# Altium footprint library YXG.PcbLib: 52 footprints (part 1 of 4)
Each footprint in its own frame and in the unit in brackets; x right, y up, seen from the top. Pads: shape width x height; smd on the part's side, far side on the other; paste and mask are expansions set on the pad; w line width, h text height; cw(c..) or ccw(c..) is an arc to the next point about the centre after c.
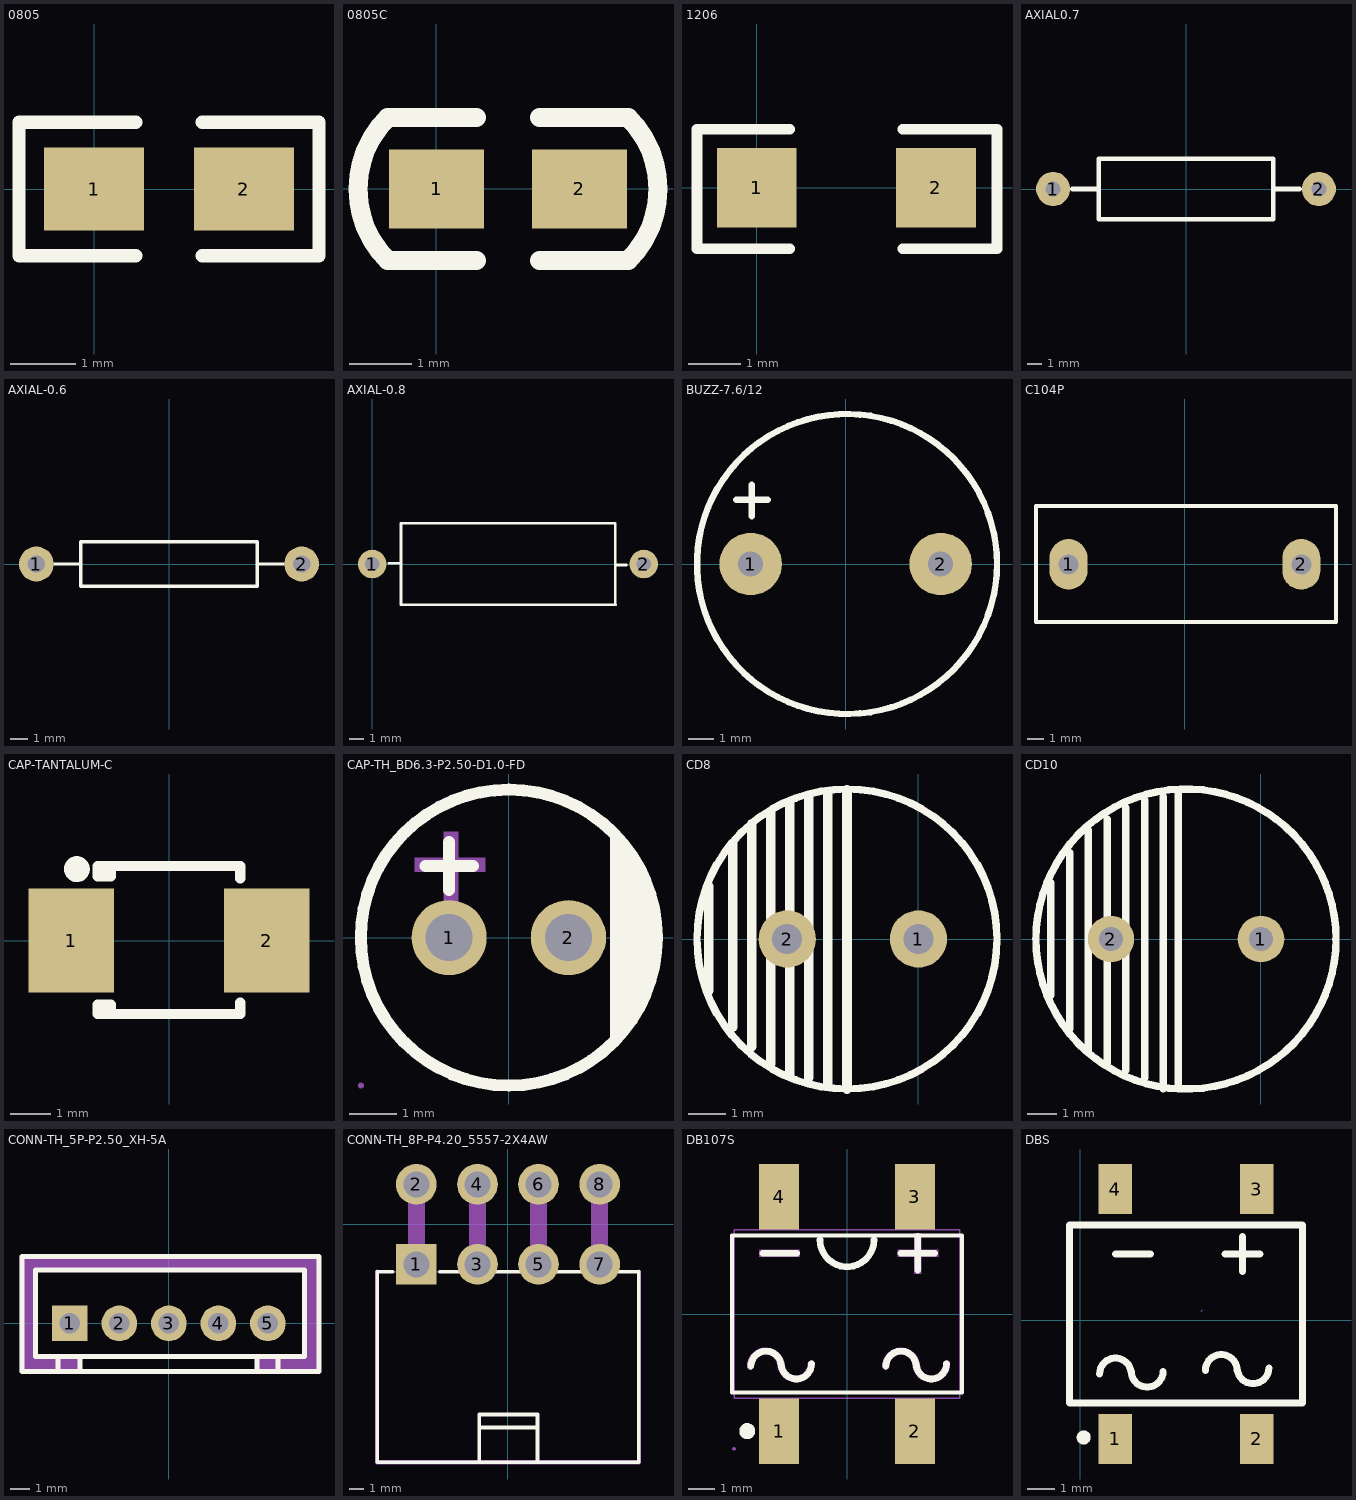
[diagram p0: the footprints below, top view; thin cyan lines are the x and y axes]

## 0805 [mil]
pads (2):
  rect 60x50 smd: 1(0,0) 2(90,0)
Top Overlay:
  lines w8: 25,-40 -45,-40 -45,40 25,40 ; 65,-40 135,-40 135,40 65,40

## 0805C [mil]
pads (2):
  rect 60x50 smd: 1(0.16,0) 2(90.16,0)
Top Overlay:
  lines w12: 25.16,-45 -30.84,-45 cw(c14.16,0) -30.84,45 25.16,45 ; 65.16,-45 121.16,-45 ccw(c76.16,0) 121.16,45 65.16,45

## 1206 [mil]
pads (2):
  rect 60x60 smd: 1(0,0) 2(135,0)
Top Overlay:
  lines w8: 25,-46 -45,-46 -45,44 25,44 ; 110,-46 181,-46 181,44 110,44

## AXIAL0.7 [mil]
pads (2):
  round 90 hole 39.37: 1(-350,0) 2(350,0)
Top Overlay:
  lines w12: -300,0 -230,0 ; 230,0 300,0 ; -230,-80 230,-80 230,80 -230,80 -230,-80

## AXIAL-0.6 [mm]
height 2.54
pads (2):
  round 2 hole 1: 1(-7.62,0) 2(7.62,0)
Top Overlay:
  lines w0.2: -6.604,0 -5.08,0 ; 5.08,0 6.604,0 ; -5.08,-1.27 -5.08,1.27 5.08,1.27 5.08,-1.27 -5.08,-1.27

## AXIAL-0.8 [mm]
pads (2):
  round 2 hole 1: 1(0,0) 2(19,0)
Top Overlay:
  lines w0.2: 1.17,0.056 1.932,0.056 ; 17.005,-2.855 17.005,2.86 2.019,2.86 2.019,-2.855 17.019,-2.855 ; 17.045,-0.071 17.807,-0.071

## BUZZ-7.6/12 [mm]
height 7.5
pads (2):
  round 2.5 hole 1: 1(-3.8,0) 2(3.8,0)
Top Overlay:
  circle w0.254: c0.051,0 r6
  lines w0.254: -4.38,2.57 -3.12,2.57 ; -3.76,1.91 -3.76,3.17

## C104P [mm]
pads (2):
  oval 2.286x3.048 hole 1.2: 1(-7,0) 2(7,0)
Top Overlay:
  lines w0.254: -8.96,3.5 -8.96,-3.465 9.086,-3.465 9.086,3.5 ; -8.96,3.505 9.086,3.505

## CAP-TANTALUM-C [mm]
height 1.9
pads (2):
  rect 2.1x2.56 smd: 1(-2.4,0) 2(2.4,0)
Top Overlay:
  circle w0.381: c-2.261,1.753 r0.127
  lines w0.254: -1.6,-1.575 -1.75,-1.725 -1.75,-1.803 ; -1.6,1.575 -1.6,1.6 ; -1.422,-1.753 -1.422,-1.575 -1.75,-1.575 -1.75,-1.803 ; -1.422,1.702 -1.422,1.575 -1.75,1.575 -1.75,1.829 1.75,1.829 1.75,1.524 ; 1.75,-1.524 1.75,-1.803 -1.75,-1.803

## CAP-TH_BD6.3-P2.50-D1.0-FD [mm]
pads (2):
  round 1.6 hole 1: 1(-1.27,0) 2(1.27,0)
Top Overlay:
  circle w0.254: c0,0 r3.15
  region: 2.159,2.286 2.319,2.142 2.595,1.812 2.822,1.447 2.997,1.054 3.115,0.641 3.175,0.215 3.175,-0.215 3.115,-0.641 2.997,-1.054 2.822,-1.447 2.595,-1.812 2.319,-2.142 2.159,-2.286
  lines w0.254: -1.778,1.524 -0.762,1.524 ; -1.27,1.016 -1.27,2.032
Mechanical 6:
  region: -2,1.7 -0.5,1.7 -0.5,1.4 -2,1.4
  region: -1.381,0.752 -1.381,2.252 -1.081,2.252 -1.081,0.752
Mechanical 15:
  region: -3.09,-3.15 -3.09,-3.125 -3.125,-3.09 -3.175,-3.09 -3.21,-3.125 -3.21,-3.15 -3.21,-3.175 -3.175,-3.21 -3.125,-3.21 -3.09,-3.175
  region: 1.57,0 1.569,0.059 1.522,0.167 1.438,0.25 1.329,0.294 1.211,0.294 1.102,0.25 1.018,0.167 0.971,0.059 0.97,0 0.971,-0.059 1.018,-0.167 1.102,-0.25 1.211,-0.294 1.329,-0.294 1.438,-0.25 1.522,-0.167 1.569,-0.059
  region: -0.97,0 -0.971,0.059 -1.018,0.167 -1.102,0.25 -1.211,0.294 -1.329,0.294 -1.438,0.25 -1.522,0.167 -1.569,0.059 -1.57,0 -1.569,-0.059 -1.522,-0.167 -1.438,-0.25 -1.329,-0.294 -1.211,-0.294 -1.102,-0.25 -1.018,-0.167 -0.971,-0.059
  lines w0.051: -3.15,0 cw(c0,0) 3.15,0 cw(c0,0) -3.15,0

## CD8 [mil]
pads (2):
  round 60 hole 31.5: 1(0,0) 2(-137.8,0)
Top Overlay:
  circle w7.87: c-75,0 r157.48
  lines w10: -220,-54.13 -220,55.12 ; -195,-92.52 -195,100.39 ; -175,-113.19 -175,121.06 ; -155,-130.91 -155,133.86 ; -135,-143.7 -135,141.73 ; -115,-145.67 -115,149.61 ; -95,-154.53 -95,153.54 ; -75,-157.48 -75,156.5

## CD10 [mil]
pads (2):
  round 62 hole 31.5: 1(0,0) 2(-200,0)
Top Overlay:
  circle w10: c-100,0 r200
  lines w10: -280,-75 -280,75 ; -255,-120 -255,115 ; -230,-150 -230,145 ; -205,-165 -205,160 ; -180,-175 -180,175 ; -155,-185 -155,185 ; -130,-200 -130,190 ; -110,-200 -110,195

## CONN-TH_5P-P2.50_XH-5A [mm]
pads (5):
  rect 1.8x1.8 hole 1.05: 1(-5,0)
  round 1.8 hole 1.05: 2(-2.498,0) 3(0.001,0) 4(2.501,0) 5(5,0)
Top Overlay:
  lines w0.254: -7.416,-2.432 -7.416,3.368 7.58,3.368 ; -7.413,-2.438 7.583,-2.438 ; -6.731,-1.676 -6.731,2.692 6.858,2.692 6.858,-1.676 -6.698,-1.676 ; -5.58,-2.438 -5.58,-1.676 ; -4.47,-2.438 -4.47,-1.803 ; 4.453,-2.438 4.453,-1.676 ; 5.52,-2.438 5.52,-1.676 ; 7.573,-2.438 7.573,3.353
Mechanical 6:
  region: 4.42,-1.727 6.807,-1.727 6.858,-1.676 6.858,2.692 -6.731,2.692 -6.731,-1.643 -6.698,-1.676 -4.597,-1.676 -4.47,-1.676 -4.47,-1.803 -4.47,-2.438 -7.413,-2.438 -7.413,3.365 -7.416,3.368 7.558,3.368 7.573,3.353 7.573,-2.429 7.583,-2.438 4.394,-2.438
Mechanical 15:
  region: -7.44,-2.4 -7.44,-2.375 -7.475,-2.34 -7.525,-2.34 -7.56,-2.375 -7.56,-2.4 -7.56,-2.425 -7.525,-2.46 -7.475,-2.46 -7.44,-2.425
  region: 4.675,0.325 5.325,0.325 5.325,-0.325 4.675,-0.325
  region: 2.176,0.325 2.826,0.325 2.826,-0.325 2.176,-0.325
  region: -0.324,0.325 0.326,0.325 0.326,-0.325 -0.324,-0.325
  region: -2.823,0.325 -2.173,0.325 -2.173,-0.325 -2.823,-0.325
  region: -5.325,0.325 -4.675,0.325 -4.675,-0.325 -5.325,-0.325
  lines w0.051: -7.5,-2.4 7.5,-2.4 7.5,3.4 -7.5,3.4 -7.5,-2.4

## CONN-TH_8P-P4.20_5557-2X4AW [mm]
pads (8):
  rect 2.8x2.8 hole 1.8: 1(-6.3,-2.75)
  round 2.8 hole 1.8: 2(-6.3,2.75) 3(-2.1,-2.75) 5(2.1,-2.75) 7(6.3,-2.75)
  round 2.8 hole 1.8 copper offset 0,0: 4(-2.1,2.75) 6(2.1,2.75) 8(6.3,2.75)
Top Overlay:
  lines w0.254: -7.931,-3.25 -9,-3.25 -9,-16.35 9,-16.35 9,-3.25 7.462,-3.25 ; -4.669,-3.25 -3.262,-3.25 ; -1.968,-16.272 -1.968,-13.072 2.032,-13.072 2.032,-16.272 ; -1.968,-13.972 2.032,-13.972 ; -0.938,-3.25 0.938,-3.25 ; 3.262,-3.25 5.138,-3.25
Mechanical 6:
  region: -9.127,-16.35 -9.127,-3.25 -9.127,-3.197 -9.052,-3.123 -8.947,-3.123 -8.873,-3.197 -8.873,-3.25 -8.873,-16.35 -8.873,-16.403 -8.947,-16.477 -9.052,-16.477 -9.127,-16.403 -9.127,-16.35
  region: -9,-16.223 9,-16.223 9.053,-16.223 9.127,-16.297 9.127,-16.403 9.053,-16.477 9,-16.477 -9,-16.477 -9.052,-16.477 -9.127,-16.403 -9.127,-16.297 -9.052,-16.223 -9,-16.223
  region: 8.873,-16.35 8.873,-3.25 8.873,-3.197 8.948,-3.123 9.053,-3.123 9.127,-3.197 9.127,-3.25 9.127,-16.35 9.127,-16.403 9.053,-16.477 8.948,-16.477 8.873,-16.403 8.873,-16.35
Mechanical 15:
  region: -8.94,-16.35 -8.94,-16.325 -8.975,-16.29 -9.025,-16.29 -9.06,-16.325 -9.06,-16.35 -9.06,-16.375 -9.025,-16.41 -8.975,-16.41 -8.94,-16.375 -8.94,-16.35
  region: -2.67,-2.18 -1.53,-2.18 -1.53,-3.32 -2.67,-3.32
  region: -6.87,-2.18 -5.73,-2.18 -5.73,-3.32 -6.87,-3.32
  region: -2.67,3.32 -1.53,3.32 -1.53,2.18 -2.67,2.18
  region: -6.87,3.32 -5.73,3.32 -5.73,2.18 -6.87,2.18
  region: 1.53,-2.18 2.67,-2.18 2.67,-3.32 1.53,-3.32
  region: 1.53,3.32 2.67,3.32 2.67,2.18 1.53,2.18
  region: 5.73,-2.18 6.87,-2.18 6.87,-3.32 5.73,-3.32
  region: 5.725,3.32 6.865,3.32 6.865,2.18 5.725,2.18
  region: 6.865,-3.48 5.725,-3.48 5.725,2.42 6.865,2.42
  region: 2.665,-3.48 1.525,-3.48 1.525,2.42 2.665,2.42
  region: -1.535,-3.48 -2.675,-3.48 -2.675,2.42 -1.535,2.42
  region: -5.735,-3.48 -6.875,-3.48 -6.875,2.42 -5.735,2.42
  lines w0.051: -9,-16.35 -9,-3.25 9,-3.25 9,-16.35 -9,-16.35

## DB107S [mm]
pads (4):
  rect 1.505x2.47 smd: 1(-2.55,-4.41) 2(2.55,-4.41) 3(2.55,4.41) 4(-2.55,4.41)
Top Overlay:
  circle w0.3: c-3.755,-4.41 r0.15
  lines w0.152: -4.326,-2.946 4.326,-2.946 4.326,2.946 -4.326,2.946 -4.326,-2.946
  lines w0.254: -3.619,-1.968 cw(c-3.048,-1.968) -2.476,-1.968 ; -3.175,2.286 -1.905,2.286 ; -2.476,-1.873 ccw(c-1.905,-1.873) -1.333,-1.873 ; -1.016,2.794 ccw(c0,2.794) 1.016,2.794 ; 1.46,-1.968 cw(c2.032,-1.968) 2.603,-1.968 ; 2.032,2.286 3.302,2.286 ; 2.603,-1.873 ccw(c3.175,-1.873) 3.746,-1.873 ; 2.667,1.651 2.667,2.921
Mechanical 6:
  drawing of 5 lines, arcs and shapes, not listed
Mechanical 15:
  region: -4.19,-5.075 -4.19,-5.05 -4.225,-5.015 -4.275,-5.015 -4.31,-5.05 -4.31,-5.075 -4.31,-5.1 -4.275,-5.135 -4.225,-5.135 -4.19,-5.1
  region: 3.087,5.075 3.087,4.125 2.012,4.125 2.012,5.075
  region: 3.087,4.135 3.087,3.165 2.012,3.165 2.012,4.135
  region: -2.012,5.075 -2.012,4.125 -3.087,4.125 -3.087,5.075
  region: -2.012,4.135 -2.012,3.165 -3.087,3.165 -3.087,4.135
  region: 3.087,-5.075 3.087,-4.125 2.012,-4.125 2.012,-5.075
  region: 3.087,-4.135 3.087,-3.165 2.012,-3.165 2.012,-4.135
  region: -2.012,-5.075 -2.012,-4.125 -3.087,-4.125 -3.087,-5.075
  region: -2.012,-4.135 -2.012,-3.165 -3.087,-3.165 -3.087,-4.135
  lines w0.051: -4.25,-3.175 4.25,-3.175 4.25,3.175 -4.25,3.175 -4.25,-3.175

## DBS [mm]
pads (4):
  rect 1.2x1.8 smd: 1(1.264,-4.282) 2(6.364,-4.282) 3(6.364,4.718) 4(1.264,4.718)
Top Overlay:
  circle w0.254: c0.131,-4.227 r0.127
  lines w0.254: 0.702,-1.941 cw(c1.274,-1.941) 1.845,-1.941 ; 1.274,2.377 2.544,2.377 ; 1.845,-1.846 ccw(c2.417,-1.846) 2.988,-1.846 ; 4.512,-1.814 cw(c5.084,-1.814) 5.655,-1.814 ; 5.211,2.377 6.481,2.377 ; 5.655,-1.719 ccw(c6.227,-1.719) 6.798,-1.719 ; 5.846,1.742 5.846,3.012 ; -0.386,-2.982 8.014,-2.982 8.014,3.418 -0.386,3.418 -0.386,-2.982
Mechanical 15:
  lines w0.003: 4.36,0.32 4.411,0.37